# Altium footprint library Spindle Drive.PcbLib: 5 footprints
Each footprint in its own frame and in the unit in brackets; x right, y up, seen from the top. Pads: shape width x height; smd on the part's side, far side on the other; paste and mask are expansions set on the pad; w line width, h text height; cw(c..) or ccw(c..) is an arc to the next point about the centre after c.
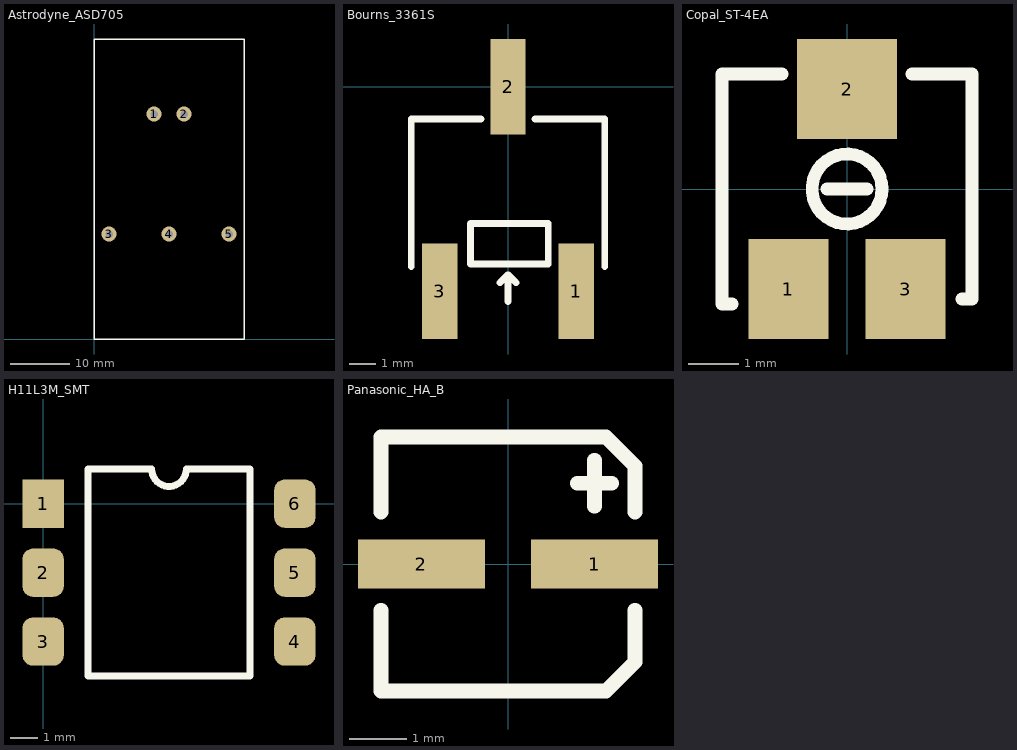
[diagram p0: the footprints below, top view; thin cyan lines are the x and y axes]

## Astrodyne_ASD705 [mil]
pads (5):
  round 100 hole 50: 1(400,1500) 2(600,1500) 3(100,700) 4(500,700) 5(900,700)
Top Overlay:
  lines w10: 0,0 0,2000 1000,2000 1000,0 0,0

## Bourns_3361S [mm]
pads (3):
  rect 1.31x3.55 smd: 1(2.54,-7.62) 2(0,0) 3(-2.54,-7.62)
Top Overlay:
  lines w0.254: -3.6,-6.7 -3.6,-1.2 -1,-1.2 ; -0.3,-7.3 0,-7 ; 0,-8 0,-7 ; 0.3,-7.3 0,-7 ; 1,-1.2 3.6,-1.2 3.6,-6.7 ; -1.4,-6.6 1.5,-6.6 1.5,-5.1 -1.4,-5.1 -1.4,-6.6

## Copal_ST-4EA [mm]
pads (3):
  rect 1.6x2 smd: 1(-1.175,-2) 3(1.175,-2)
  rect 2x2 smd: 2(0,2)
Top Overlay:
  circle w0.254: c0,0 r0.7
  lines w0.254: -2.3,-2.3 -2.5,-2.3 -2.5,2.3 -1.3,2.3 ; -0.4,0 0.4,0 ; 1.3,2.3 2.5,2.3 2.5,-2.2 2.3,-2.2

## H11L3M_SMT [mil]
pads (6):
  rect 60x70 smd: 1(0,0)
  rrect50% 60x70 smd: 2(0,-100) 3(0,-200) 4(365,-200) 5(365,-100) 6(365,0)
Top Overlay:
  lines w10: 65,-250 300,-250 300,50 207.5,50 cw(c182.5,50) 157.5,50 65,50 65,-250

## Panasonic_HA_B [mm]
pads (2):
  rect 2.2x0.85 smd: 1(1.5,0) 2(-1.5,0)
Top Overlay:
  lines w0.254: -2.2,-0.8 -2.2,-2.2 1.7,-2.2 2.2,-1.7 2.2,-0.8 ; -2.2,0.9 -2.2,2.2 1.7,2.2 2.2,1.7 2.2,0.9 ; 1.2,1.4 1.8,1.4 ; 1.5,1 1.5,1.8